# Altium footprint library PcbLib1.PcbLib: 25 footprints (part 2 of 2)
Each footprint in its own frame and in the unit in brackets; x right, y up, seen from the top. Pads: shape width x height; smd on the part's side, far side on the other; paste and mask are expansions set on the pad; w line width, h text height; cw(c..) or ccw(c..) is an arc to the next point about the centre after c.
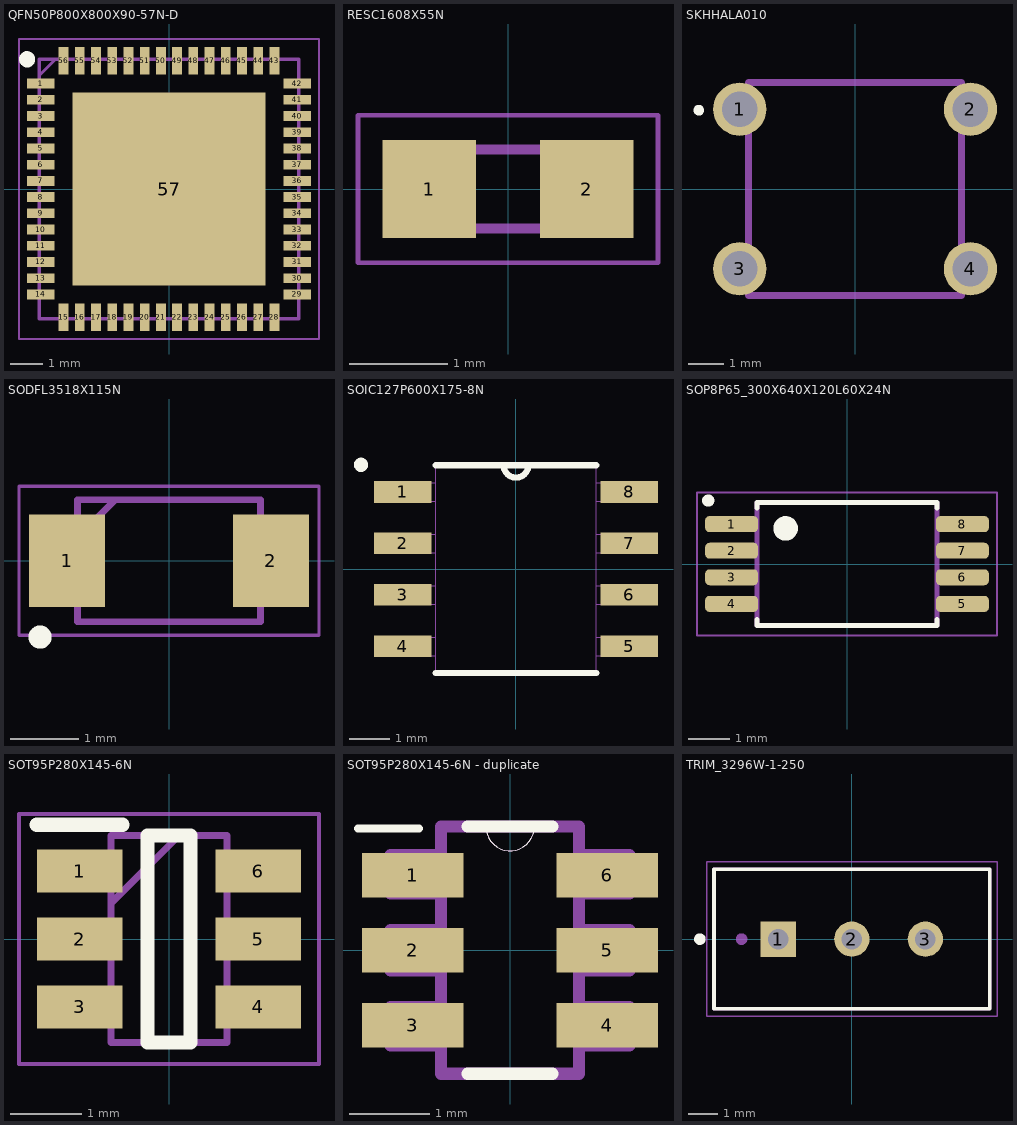
[diagram p1: the footprints below, top view; thin cyan lines are the x and y axes]

## QFN50P800X800X90-57N-D [mm]
pads (57):
  rect 0.85x0.3 smd: 1(-3.95,3.25) 2(-3.95,2.75) 3(-3.95,2.25) 4(-3.95,1.75) 5(-3.95,1.25) 6(-3.95,0.75) 7(-3.95,0.25) 8(-3.95,-0.25) 9(-3.95,-0.75) 10(-3.95,-1.25) 11(-3.95,-1.75) 12(-3.95,-2.25) 13(-3.95,-2.75) 14(-3.95,-3.25) 29(3.95,-3.25) 30(3.95,-2.75) 31(3.95,-2.25) 32(3.95,-1.75) 33(3.95,-1.25) 34(3.95,-0.75) 35(3.95,-0.25) 36(3.95,0.25) 37(3.95,0.75) 38(3.95,1.25) 39(3.95,1.75) 40(3.95,2.25) 41(3.95,2.75) 42(3.95,3.25)
  rect 0.3x0.85 smd: 15(-3.25,-3.95) 16(-2.75,-3.95) 17(-2.25,-3.95) 18(-1.75,-3.95) 19(-1.25,-3.95) 20(-0.75,-3.95) 21(-0.25,-3.95) 22(0.25,-3.95) 23(0.75,-3.95) 24(1.25,-3.95) 25(1.75,-3.95) 26(2.25,-3.95) 27(2.75,-3.95) 28(3.25,-3.95) 43(3.25,3.95) 44(2.75,3.95) 45(2.25,3.95) 46(1.75,3.95) 47(1.25,3.95) 48(0.75,3.95) 49(0.25,3.95) 50(-0.25,3.95) 51(-0.75,3.95) 52(-1.25,3.95) 53(-1.75,3.95) 54(-2.25,3.95) 55(-2.75,3.95) 56(-3.25,3.95)
  rect 5.95x5.95 smd: 57(0,0)
Top Overlay:
  circle w0.25: c-4.375,4 r0.125
Mechanical 13:
  lines w0.1: -4,3.5 -3.5,4 ; -4,-4 4,-4 4,4 -4,4 -4,-4
Mechanical 15:
  lines w0.05: -4.625,-4.625 4.625,-4.625 4.625,4.625 -4.625,4.625 -4.625,-4.625
3D body "FT232HPQ-TRAY.stp": height 0.9, standoff 0, extent -4.05,-4.05 4.05,4.05

## RESC1608X55N [mm]
pads (2):
  rect 0.95x1 smd: 1(-0.8,0) 2(0.8,0)
Mechanical 13:
  lines w0.1: -0.8,-0.4 0.8,-0.4 0.8,0.4 -0.8,0.4 -0.8,-0.4
Mechanical 15:
  lines w0.05: -1.525,-0.75 1.525,-0.75 1.525,0.75 -1.525,0.75 -1.525,-0.75
3D body "ERA-3AHD130V.stp": height 0.55, standoff 0, extent -0.8,-0.4 0.8,0.4

## SKHHALA010 [mm]
pads (4):
  round 1.5 hole 1: 1(-3.25,2.25) 2(3.25,2.25) 3(-3.25,-2.25) 4(3.25,-2.25)
Top Overlay:
  circle w0.2: c-4.405,2.22 r0.05
Mechanical 13:
  lines w0.2: -3,-3 3,-3 3,3 -3,3 -3,-3
3D body "SKHHAKA010.stp": height 4.3, standoff -3.5, extent -3.95,-3.1 3.95,3.1

## SODFL3518X115N [mm]
pads (2):
  rect 1.12x1.37 smd: 1(-1.5,0) 2(1.5,0)
Top Overlay:
  circle w0.2: c-1.9,-1.125 r0.071
Mechanical 13:
  lines w0.1: -1.35,0.34 -0.79,0.9 ; -1.35,-0.9 -1.35,0.9 1.35,0.9 1.35,-0.9 -1.35,-0.9
Mechanical 15:
  lines w0.05: -2.21,-1.1 -2.21,1.1 2.21,1.1 2.21,-1.1 -2.21,-1.1
3D body "1N5819HW1-7-F.stp": height 1.15, standoff 0, extent -1.75,-0.9 1.75,0.9

## SOIC127P600X175-8N [mil]
pads (8):
  rect 56x21 smd: 1(-110,75) 2(-110,25) 3(-110,-25) 4(-110,-75) 5(110,-75) 6(110,-25) 7(110,25) 8(110,75)
Top Overlay:
  circle w7.87: c-150.59,101.38 r2.95
  lines w6: -78,-101 78,-101 ; -78,101 -12,101 ; 78,101 12,101 ; -12,101 ccw(c0,101) 12,101 ; -12,101 12,101
Mechanical 13:
  lines w0: -12,101 ccw(c0,101) 12,101 ; -12,101 12,101 ; -12,101 -78,101 -78,-101 78,-101 78,101 12,101 ; -124,-84 -124,-66 -78,-66 -78,-84 -124,-84 ; -124,-34 -124,-16 -78,-16 -78,-34 -124,-34 ; -124,16 -124,34 -78,34 -78,16 -124,16 ; -124,66 -124,84 -78,84 -78,66 -124,66 ; 78,-84 78,-66 124,-66 124,-84 78,-84 ; 78,-34 78,-16 124,-16 124,-34 78,-34 ; 78,16 78,34 124,34 124,16 78,16 ; 78,66 78,84 124,84 124,66 78,66

## SOP8P65_300X640X120L60X24N [mm]
pads (8):
  rrect53% 1.29x0.39 smd: 1(-2.82,0.975) 2(-2.82,0.325) 3(-2.82,-0.325) 4(-2.82,-0.975) 5(2.82,-0.975) 6(2.82,-0.325) 7(2.82,0.325) 8(2.82,0.975)
Top Overlay:
  circle w0.15: c-3.39,1.55 r0.075
  circle w0.3: c-1.5,0.87 r0.15
  lines w0.127: -2.2,-1.36 -2.2,-1.5 2.2,-1.5 2.2,-1.36 ; -2.2,1.37 -2.2,1.5 2.2,1.5 2.2,1.37
Mechanical 13:
  lines w0.127: -2.2,-1.5 -2.2,1.5 2.2,1.5 2.2,-1.5 -2.2,-1.5
Mechanical 15:
  lines w0.05: -3.665,-1.75 -3.665,1.75 3.665,1.75 3.665,-1.75 -3.665,-1.75

## SOT95P280X145-6N [mm]
pads (6):
  rect 1.2x0.6 smd: 1(-1.25,0.95) 2(-1.25,0) 3(-1.25,-0.95) 4(1.25,-0.95) 5(1.25,0) 6(1.25,0.95)
Top Overlay:
  lines w0.2: -1.85,1.6 -0.65,1.6 ; -0.3,-1.45 -0.3,1.45 0.3,1.45 0.3,-1.45 -0.3,-1.45
Mechanical 13:
  lines w0.1: -0.812,0.5 0.138,1.45 ; -0.812,-1.45 -0.812,1.45 0.812,1.45 0.812,-1.45 -0.812,-1.45
Mechanical 15:
  lines w0.05: -2.1,-1.75 -2.1,1.75 2.1,1.75 2.1,-1.75 -2.1,-1.75
3D body "SP3051-04HTG.stp": height 1.45, standoff 0, extent -1.4,-1.45 1.4,1.45

## SOT95P280X145-6N - duplicate [mil]
pads (6):
  rect 50x22 smd: 1(-48,37) 2(-48,0) 3(-48,-37) 4(48,-37) 5(48,0) 6(48,37)
Top Overlay:
  lines w0: -12,61 ccw(c0,61) 12,61
  lines w3.94: -75,60 -45,60
  lines w6: -21,-61 21,-61 ; -21,61 -12,61 12,61 21,61
Mechanical 13:
  lines w0: -12,61 ccw(c0,61) 12,61
  lines w6: -59,-47 -59,-28 -34,-28 -34,-47 -59,-47 ; -59,-10 -59,10 -34,10 -34,-10 -59,-10 ; -59,28 -59,47 -34,47 -34,28 -59,28 ; -34,-61 34,-61 34,61 12,61 -12,61 -34,61 -34,-61 ; 34,-47 34,-28 59,-28 59,-47 34,-47 ; 34,-10 34,10 59,10 59,-10 34,-10 ; 34,28 34,47 59,47 59,28 34,28

## TRIM_3296W-1-250 [mm]
pads (3):
  rect 1.218x1.218 hole 0.71: 1(-2.54,0)
  round 1.218 hole 0.71: 2(0,0) 3(2.54,0)
Top Overlay:
  circle w0.2: c-5.25,0 r0.1
  lines w0.127: -4.765,-2.41 -4.765,2.42 4.765,2.42 4.765,-2.41 -4.765,-2.41
Mechanical 13:
  circle w0.2: c-3.81,0 r0.1
  lines w0.127: -4.765,-2.41 4.765,-2.41 4.765,2.42 -4.765,2.42 -4.765,-2.41
Mechanical 15:
  lines w0.05: -5.015,-2.66 5.015,-2.66 5.015,2.67 -5.015,2.67 -5.015,-2.66
3D body "step_temp.STEP": height 11.55, standoff -7.72, extent -4.765,-2.42 4.765,2.41